# EAGLE library part 691412320011 (library Wurth_Connectors_WR-TBL Spring Clamp)
WR-TBL Serie 4123 - 3.81 mm Screwless 45° Entry KIND PROPERTIES Pitch 3.81 mm MATERIAL PROPERTIES Insulator Material PA6/66 Insulator Flammability Rating UL94 V-0 Insulator Color Grey Contact Material Phosphor Bronze Contact Plating Matte Tin Wire Guard Material Phosphor Bronze GENERAL INFORMATION Operating Temperature -30 up to +120 °C Compliance Lead free / RoHS ELECTRICAL PROPERTIES IR UL 4 A IR VDE 4 A Working Voltage [UL] 300 V (AC) Working Voltage [VDE] 450 V (AC) Withstanding Voltage [UL] 1600 V (AC) Withstanding Voltage [VDE] 2500 V (AC) Contact Resistance 20 mΩ Mechanical Properties Wire Strip Length 7 (mm) Wire Properties Solid Wire Section (AWG) 16 to 30 (AWG) Solid Wire Section (Metric) 1.31 to 0.0509 (mm²) Stranded Wire Section (AWG) 16 to 30 (AWG) Stranded Wire Section (Metric) 1.31 to 0.0509 (mm²) CERTIFICATION UL Approval E150931 VDE Approval 40013441 Packaging Properties Packaging Box <https://www.we-online.com/catalog/media/o84303v209%20Family_WR-TBL4_6914123200xx.jpg> Details see: https://www.we-online.com/catalog/en/TBL_3_81_4123_SCREWLESS_45-DEGREE_ENTRY_6914123200xx/ Updated by Ella Wu 2019-12-31 2019(C) Wurth Elektronik
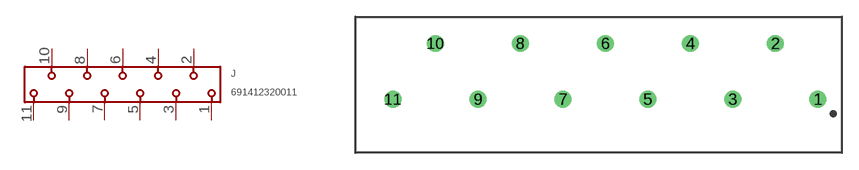
[diagram p143: symbol with the pads of 691412320011; footprint 691412320011]

Designator prefix J

## 691412320011 (DATASHEET-URL: https://www.we-online.com/redexpert/spec/691412320011?ae; IR-UL: 4A; IR-VDE: 4A; MOUNT: THT; PART-NUMBER: 691412320011; PINS: 11; PITCH: 3.81mm; TYPE: 45°; VALUE: 691412320011; WIRE: 16 to 30 (AWG) 1.31 to 0.05 (mm²); WORKING-VOLTAGE-UL: 300V (AC); WORKING-VOLTAGE-VDE: 450V (AC))  [691412320011]
1  1  pas
2  2  pas
3  3  pas
4  4  pas
5  5  pas
6  6  pas
7  7  pas
8  8  pas
9  9  pas
10  10  pas
11  11  pas

## Footprint 691412320011 (pad centres in mm)
WR-TBL Serie 4123 - 3.81 mm Screwless 45° Entry Max Height = 13.2mm , Pitch 3.81mm , 11pins
drill 1: 1 19.05,-2.5; 2 15.24,2.5; 3 11.43,-2.5; 4 7.62,2.5; 5 3.81,-2.5; 6 0,2.5; 7 -3.81,-2.5; 8 -7.62,2.5; 9 -11.43,-2.5; 10 -15.24,2.5; 11 -19.05,-2.5